# Altium footprint library PcbIC.PcbLib: 24 footprints (part 2 of 2)
Each footprint in its own frame and in the unit in brackets; x right, y up, seen from the top. Pads: shape width x height; smd on the part's side, far side on the other; paste and mask are expansions set on the pad; w line width, h text height; cw(c..) or ccw(c..) is an arc to the next point about the centre after c.
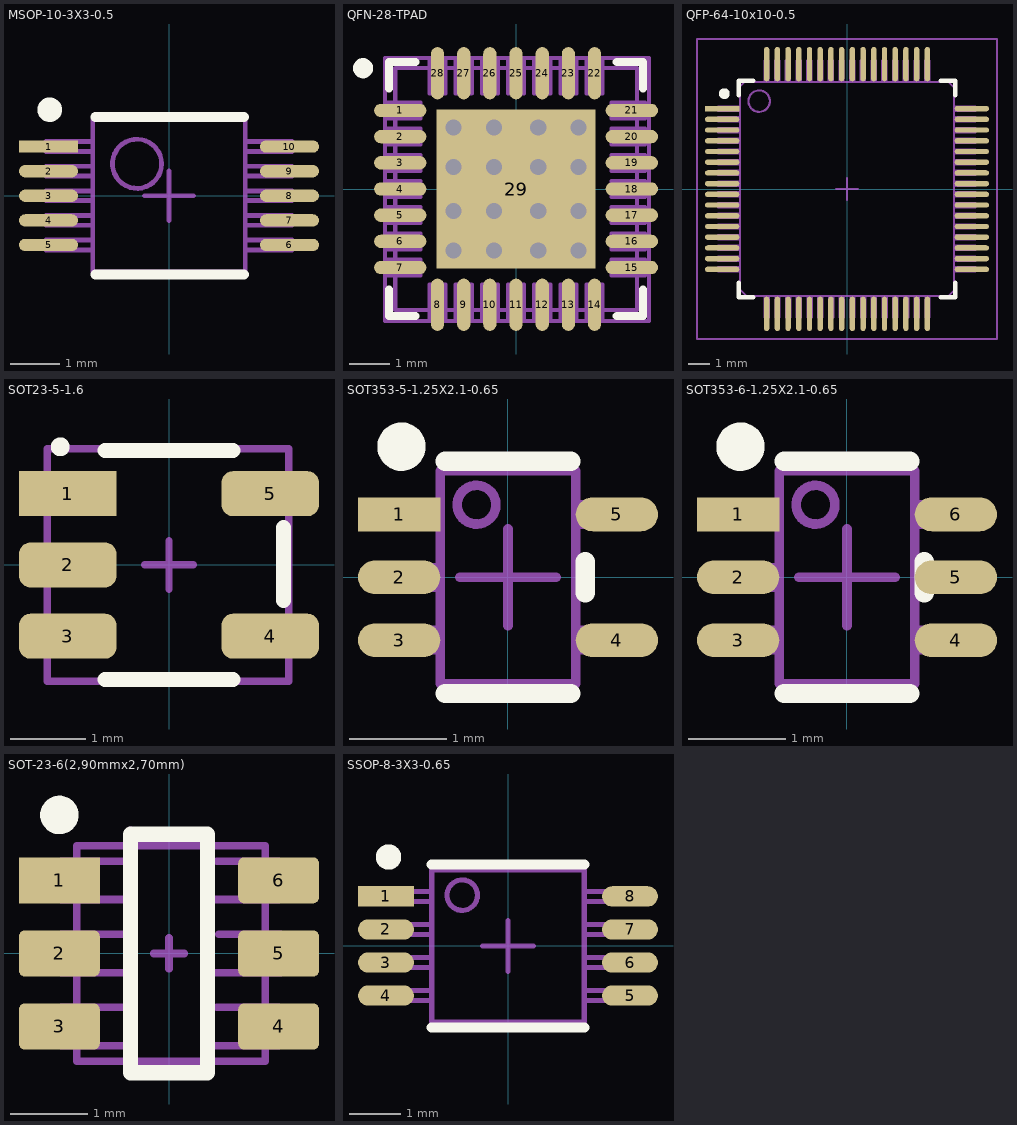
[diagram p1: the footprints below, top view; thin cyan lines are the x and y axes]

## MSOP-10-3X3-0.5 [mm] "MSOP-10, Body 3x3mm"
height 1
pads (10):
  rect 1.2x0.25 smd: 1(-2.45,1)
  oval 1.2x0.25 smd: 2(-2.45,0.5) 3(-2.45,0) 4(-2.45,-0.5) 5(-2.45,-1) 6(2.45,-1) 7(2.45,-0.5) 8(2.45,0) 9(2.45,0.5) 10(2.45,1)
Top Overlay:
  circle w0.25: c-2.425,1.75 r0.125
  lines w0.2: -1.5,-1.6 1.525,-1.6 ; -1.5,1.6 1.525,1.6
TopAssy:
  circle w0.1: c-0.65,0.65 r0.5
  lines w0.1: -1.55,-1.1 -2.5,-1.1 -2.5,-0.9 -1.55,-0.9 ; -1.55,-0.6 -2.5,-0.6 -2.5,-0.4 -1.55,-0.4 ; -1.55,-0.1 -2.5,-0.1 -2.5,0.1 -1.55,0.1 ; -1.55,0.4 -2.5,0.4 -2.5,0.6 -1.55,0.6 ; -1.55,0.9 -2.5,0.9 -2.5,1.1 -1.55,1.1 ; 1.55,-1.1 2.5,-1.1 2.5,-0.9 1.55,-0.9 ; 1.55,-0.6 2.5,-0.6 2.5,-0.4 1.55,-0.4 ; 1.55,-0.1 2.5,-0.1 2.5,0.1 1.55,0.1 ; 1.55,0.4 2.5,0.4 2.5,0.6 1.55,0.6 ; 1.55,0.9 2.5,0.9 2.5,1.1 1.55,1.1 ; -1.55,-1.55 -1.55,1.55 1.55,1.55 1.55,-1.55 -1.55,-1.55
Inside:
  lines w0.1: -0.5,0 0.5,0 ; 0,-0.5 0,0.5
3D body "SW3dPS-TSSOP-10.STEP": height 1.1, standoff 0, extent -2.5,-1.5 2.5,1.5

## QFN-28-TPAD [mm] "QFN, 28-Leads, Body 6,00x6,00mm, Pitch 0,65mm, Thermal Pad 3,95x3,95mm, IPC Medium Density"
height 1
pads (29):
  oval 1.3x0.33 smd: 1(-2.875,1.95) 2(-2.875,1.3) 3(-2.875,0.65) 4(-2.875,0) 5(-2.875,-0.65) 6(-2.875,-1.3) 7(-2.875,-1.95) 15(2.875,-1.95) 16(2.875,-1.3) 17(2.875,-0.65) 18(2.875,0) 19(2.875,0.65) 20(2.875,1.3) 21(2.875,1.95)
  oval 0.33x1.3 smd: 8(-1.95,-2.875) 9(-1.3,-2.875) 10(-0.65,-2.875) 11(0,-2.875) 12(0.65,-2.875) 13(1.3,-2.875) 14(1.95,-2.875) 22(1.95,2.875) 23(1.3,2.875) 24(0.65,2.875) 25(0,2.875) 26(-0.65,2.875) 27(-1.3,2.875) 28(-1.95,2.875)
  rect 3.95x3.95 smd: 29(0,0)
via -1.55,-1.525 diameter 0.8 hole 0.4
via 1.55,-1.525 diameter 0.8 hole 0.4
via -1.55,-0.55 diameter 0.8 hole 0.4
via 1.55,-0.55 diameter 0.8 hole 0.4
via 1.55,0.55 diameter 0.8 hole 0.4
via -1.55,1.525 diameter 0.8 hole 0.4
via -0.55,1.525 diameter 0.8 hole 0.4
via 0.55,1.525 diameter 0.8 hole 0.4
via 1.55,1.525 diameter 0.8 hole 0.4
via -1.55,0.55 diameter 0.8 hole 0.4
via -0.55,0.55 diameter 0.8 hole 0.4
via 0.55,0.55 diameter 0.8 hole 0.4
via -0.55,-0.55 diameter 0.8 hole 0.4
via 0.55,-0.55 diameter 0.8 hole 0.4
via -0.55,-1.525 diameter 0.8 hole 0.4
via 0.55,-1.525 diameter 0.8 hole 0.4
Top Overlay:
  circle w0.25: c-3.8,3 r0.125
  lines w0.2: -3.15,-2.5 -3.15,-3.15 -2.5,-3.15 ; -3.15,2.5 -3.15,3.15 -2.5,3.15 ; 2.5,-3.15 3.15,-3.15 3.15,-2.5 ; 2.5,3.15 3.15,3.15 3.15,2.5
TopAssy:
  lines w0.1: -3.2,-2.15 -3.2,-1.75 -2.375,-1.75 -2.375,-2.15 -3.2,-2.15 ; -3.2,-1.5 -2.375,-1.5 -2.375,-1.1 -3.2,-1.1 -3.2,-1.5 ; -3.2,-0.85 -3.2,-0.45 -2.375,-0.45 -2.375,-0.85 -3.2,-0.85 ; -3.2,-0.2 -2.375,-0.2 -2.375,0.2 -3.2,0.2 -3.2,-0.2 ; -3.2,0.45 -3.2,0.85 -2.375,0.85 -2.375,0.45 -3.2,0.45 ; -3.2,1.1 -3.2,1.5 -2.375,1.5 -2.375,1.1 -3.2,1.1 ; -3.2,1.75 -2.375,1.75 -2.375,2.15 -3.2,2.15 -3.2,1.75 ; -3,-3 -3,2.075 -3,3 3,3 3,-3 -3,-3 ; -2.15,-3.2 -1.75,-3.2 -1.75,-2.375 -2.15,-2.375 -2.15,-3.2 ; -2.15,2.375 -1.75,2.375 -1.75,3.2 -2.15,3.2 -2.15,2.375 ; -1.5,-3.2 -1.5,-2.375 -1.1,-2.375 -1.1,-3.2 -1.5,-3.2 ; -1.5,2.375 -1.5,3.2 -1.1,3.2 -1.1,2.375 -1.5,2.375 ; -0.85,-3.2 -0.45,-3.2 -0.45,-2.375 -0.85,-2.375 -0.85,-3.2 ; -0.85,2.375 -0.85,3.2 -0.45,3.2 -0.45,2.375 -0.85,2.375 ; -0.2,-3.2 -0.2,-2.375 0.2,-2.375 0.2,-3.2 -0.2,-3.2 ; -0.2,2.375 0.2,2.375 0.2,3.2 -0.2,3.2 -0.2,2.375 ; 0.45,-3.2 0.85,-3.2 0.85,-2.375 0.45,-2.375 0.45,-3.2 ; 0.45,2.375 0.45,3.2 0.85,3.2 0.85,2.375 0.45,2.375 ; 1.1,-3.2 1.1,-2.375 1.5,-2.375 1.5,-3.2 1.1,-3.2 ; 1.1,2.375 1.5,2.375 1.5,3.2 1.1,3.2 1.1,2.375 ; 1.75,-3.2 2.15,-3.2 2.15,-2.375 1.75,-2.375 1.75,-3.2 ; 1.75,2.375 1.75,3.2 2.15,3.2 2.15,2.375 1.75,2.375 ; 2.375,-2.15 2.375,-1.75 3.2,-1.75 3.2,-2.15 2.375,-2.15 ; 2.375,-1.5 3.2,-1.5 3.2,-1.1 2.375,-1.1 2.375,-1.5 ; 2.375,-0.85 2.375,-0.45 3.2,-0.45 3.2,-0.85 2.375,-0.85 ; 2.375,-0.2 3.2,-0.2 3.2,0.2 2.375,0.2 2.375,-0.2 ; 2.375,0.45 2.375,0.85 3.2,0.85 3.2,0.45 2.375,0.45 ; 2.375,1.1 2.375,1.5 3.2,1.5 3.2,1.1 2.375,1.1 ; 2.375,1.75 3.2,1.75 3.2,2.15 2.375,2.15 2.375,1.75
Inside:
  lines w0.1: -0.55,0 0,0 ; 0,-0.55 0,0 ; 0,0.55 0,0 ; 0.55,0 0,0 ; -3.25,-3.275 -3.25,3.25 3.3,3.25 3.3,-2.25 3.3,-3.275 -3.25,-3.275
3D body "User Library-QFN 28-Pin 0_65mm Pitch.step": height 1, standoff 0, extent -3.01,-3.01 3.01,3.01

## QFP-64-10x10-0.5 [mm] "LQFP, 64-Leads, Body 10x10mm, Pitch 0.5mm"
height 1.6
pads (64):
  rect 1.6x0.25 smd: 1(-5.825,3.75)
  oval 1.6x0.25 smd: 2(-5.825,3.25) 3(-5.825,2.75) 4(-5.825,2.25) 5(-5.825,1.75) 6(-5.825,1.25) 7(-5.825,0.75) 8(-5.825,0.25) 9(-5.825,-0.25) 10(-5.825,-0.75) 11(-5.825,-1.25) 12(-5.825,-1.75) 13(-5.825,-2.25) 14(-5.825,-2.75) 15(-5.825,-3.25) 16(-5.825,-3.75) 33(5.825,-3.75) 34(5.825,-3.25) 35(5.825,-2.75) 36(5.825,-2.25) 37(5.825,-1.75) 38(5.825,-1.25) 39(5.825,-0.75) 40(5.825,-0.25) 41(5.825,0.25) 42(5.825,0.75) 43(5.825,1.25) 44(5.825,1.75) 45(5.825,2.25) 46(5.825,2.75) 47(5.825,3.25) 48(5.825,3.75)
  oval 0.25x1.6 smd: 17(-3.75,-5.825) 18(-3.25,-5.825) 19(-2.75,-5.825) 20(-2.25,-5.825) 21(-1.75,-5.825) 22(-1.25,-5.825) 23(-0.75,-5.825) 24(-0.25,-5.825) 25(0.25,-5.825) 26(0.75,-5.825) 27(1.25,-5.825) 28(1.75,-5.825) 29(2.25,-5.825) 30(2.75,-5.825) 31(3.25,-5.825) 32(3.75,-5.825) 49(3.75,5.825) 50(3.25,5.825) 51(2.75,5.825) 52(2.25,5.825) 53(1.75,5.825) 54(1.25,5.825) 55(0.75,5.825) 56(0.25,5.825) 57(-0.25,5.825) 58(-0.75,5.825) 59(-1.25,5.825) 60(-1.75,5.825) 61(-2.25,5.825) 62(-2.75,5.825) 63(-3.25,5.825) 64(-3.75,5.825)
Top Overlay:
  circle w0.25: c-5.725,4.45 r0.125
  lines w0.2: -5.05,-4.375 -5.05,-5.05 -4.375,-5.05 ; -5.05,4.375 -5.05,5.05 -4.375,5.05 ; 4.375,-5.05 5.05,-5.05 5.05,-4.375 ; 4.375,5.05 5.05,5.05 5.05,4.375
TopAssy:
  drawing of 201 lines, arcs and shapes, not listed
Inside:
  lines w0.1: -0.5,0 0.5,0 ; 0,-0.5 0,0.5 ; -7,-7 -7,7 7,7 7,-7 -7,-7
3D body "PM0064A.stp": height 1.5, standoff 0, extent -6.011,-6.011 6.011,6.011

## SOT23-5-1.6 [mm]
pads (5):
  rect 1.3x0.6 smd: 1(-1.35,0.95)
  rrect50% 1.3x0.6 smd: 2(-1.35,0) 3(-1.35,-0.95) 4(1.35,-0.95) 5(1.35,0.95)
Top Overlay:
  circle w0.15: c-1.45,1.575 r0.05
  lines w0.2: -0.85,-1.525 0.85,-1.525 ; -0.85,1.525 0.85,1.525 ; 1.525,-0.475 1.525,0.5
TopAssy:
  lines w0.1: -1.625,-1.55 1.6,-1.55 1.6,1.55 -1.625,1.55 -1.625,-1.55
Inside:
  lines w0.1: -0.325,0 0.325,0 ; 0,-0.325 0,0.325
3D body "User Library-SOT23-5-3.STEP": height 1.45, standoff 0.01, extent -1.6,-1.55 1.6,1.55

## SOT353-5-1.25X2.1-0.65 [mm] "SC-70-5, 0.65 PITCH"
height 2.3
pads (5):
  rect 0.85x0.35 smd: 1(-1.125,0.65)
  oval 0.85x0.35 smd: 2(-1.125,0) 3(-1.125,-0.65) 4(1.125,-0.65) 5(1.125,0.65)
Top Overlay:
  circle w0.25: c-1.1,1.35 r0.125
  lines w0.2: -0.65,-1.2 0.65,-1.2 ; -0.65,1.2 0.65,1.2 ; 0.8,-0.163 0.8,0.162
TopAssy:
  circle w0.1: c-0.325,0.75 r0.2
  lines w0.1: -0.7,-0.75 -1.225,-0.75 -1.225,-0.55 -0.7,-0.55 ; -0.7,-0.1 -1.225,-0.1 -1.225,0.1 -0.7,0.1 ; -0.7,0.55 -1.225,0.55 -1.225,0.75 -0.7,0.75 ; 0.7,-0.75 1.225,-0.75 1.225,-0.55 0.7,-0.55 ; 0.7,0.55 1.225,0.55 1.225,0.75 0.7,0.75 ; -0.7,-1.1 0.7,-1.1 0.7,1.1 -0.7,1.1 -0.7,-1.1
Inside:
  lines w0.1: -0.5,0 0.5,0 ; 0,-0.5 0,0.5
3D body "SOT353.STEP": height 1.1, standoff 0, extent -1.2,-1.1 1.2,1.1

## SOT353-6-1.25X2.1-0.65 [mm] "SC-70-6, 0.65 PITCH"
height 2.3
pads (6):
  rect 0.85x0.35 smd: 1(-1.125,0.65)
  oval 0.85x0.35 smd: 2(-1.125,0) 3(-1.125,-0.65) 4(1.125,-0.65) 5(1.125,0) 6(1.125,0.65)
Top Overlay:
  circle w0.25: c-1.1,1.35 r0.125
  lines w0.2: -0.65,-1.2 0.65,-1.2 ; -0.65,1.2 0.65,1.2 ; 0.8,-0.163 0.8,0.162
TopAssy:
  circle w0.1: c-0.325,0.75 r0.2
  lines w0.1: -0.7,-0.75 -1.225,-0.75 -1.225,-0.55 -0.7,-0.55 ; -0.7,-0.1 -1.225,-0.1 -1.225,0.1 -0.7,0.1 ; -0.7,0.55 -1.225,0.55 -1.225,0.75 -0.7,0.75 ; 0.7,-0.75 1.225,-0.75 1.225,-0.55 0.7,-0.55 ; 0.7,-0.1 1.225,-0.1 1.225,0.1 0.7,0.1 ; 0.7,0.55 1.225,0.55 1.225,0.75 0.7,0.75 ; -0.7,-1.1 -0.7,1.1 0.7,1.1 0.7,-1.1 -0.7,-1.1
Inside:
  lines w0.1: -0.5,0 0.5,0 ; 0,-0.5 0,0.5
3D body "User Library-SC70-6.step": height 0.92, standoff -0.03, extent -1.075,-0.975 1.025,1.025

## SOT-23-6(2,90mmx2,70mm) [mm] "SOT23, 6-Leads, Body 2,90x2,70mm, Pitch 0,95mm, IPC Medium Density"
height 1.1
pads (6):
  rect 1.05x0.6 smd: 1(-1.425,0.95)
  rrect25% 1.05x0.6 smd: 2(-1.425,0) 3(-1.425,-0.95) 4(1.425,-0.95) 5(1.425,0) 6(1.425,0.95)
Top Overlay:
  circle w0.25: c-1.425,1.8 r0.125
  lines w0.2: -0.5,-1.55 0.5,-1.55 0.5,1.55 -0.5,1.55 -0.5,-1.55
TopAssy:
  lines w0.1: -0.6,-0.7 -1.4,-0.7 -1.4,-1.2 -0.5,-1.2 ; -0.6,0.25 -1.4,0.25 -1.4,-0.25 -0.5,-0.25 ; -0.6,1.2 -1.4,1.2 -1.4,0.7 -0.5,0.7 ; 0.525,-1.2 1.425,-1.2 1.425,-0.7 0.625,-0.7 ; 0.525,0.7 1.425,0.7 1.425,1.2 0.625,1.2 ; 0.55,-0.25 1.45,-0.25 1.45,0.25 0.65,0.25 ; -0.5,-1.4 -0.5,1.6 -0.4,1.5 0.5,1.5 0.5,-1.5 -0.4,-1.5 -0.5,-1.4
Inside:
  lines w0.1: -0.2,0 0.2,0 ; 0,-0.2 0,0.2 ; -1.2,-1.4 -1.2,1.4 1.25,1.4 1.25,-1.4 -1.2,-1.4
3D body "User Library-SOT23-6-1.step": height 1.09, standoff 0, extent -1.2,-1.397 1.226,1.397

## SSOP-8-3X3-0.65 [mm] "MSOP, 8-Leads, Body 3,00x3,00mm, Pitch 0,65mm, IPC Medium Density"
height 1.2
pads (8):
  rect 1.1x0.4 smd: 1(-2.4,0.975)
  oval 1.1x0.4 smd: 2(-2.4,0.325) 3(-2.4,-0.325) 4(-2.4,-0.975) 5(2.4,-0.975) 6(2.4,-0.325) 7(2.4,0.325) 8(2.4,0.975)
Top Overlay:
  circle w0.25: c-2.35,1.75 r0.125
  lines w0.2: -1.5,-1.6 1.5,-1.6 ; -1.5,1.6 1.5,1.6
TopAssy:
  circle w0.1: c-0.9,1 r0.3
  lines w0.1: -1.5,-1.075 -2.45,-1.075 -2.45,-0.875 -1.5,-0.875 ; -1.5,-0.425 -2.45,-0.425 -2.45,-0.225 -1.5,-0.225 ; -1.5,0.225 -2.45,0.225 -2.45,0.425 -1.5,0.425 ; -1.5,0.875 -2.45,0.875 -2.45,1.075 -1.5,1.075 ; 1.5,-1.075 2.45,-1.075 2.45,-0.875 1.5,-0.875 ; 1.5,-0.425 2.45,-0.425 2.45,-0.225 1.5,-0.225 ; 1.5,0.225 2.45,0.225 2.45,0.425 1.5,0.425 ; 1.5,0.875 2.45,0.875 2.45,1.075 1.5,1.075 ; -1.5,-1.5 1.5,-1.5 1.5,1.5 -1.5,1.5 -1.5,-1.5
Inside:
  lines w0.1: -0.5,0 0.5,0 ; 0,-0.5 0,0.5
3D body "User Library-MSOP-8-2.STEP": height 1.05, standoff -0.02, extent -2.51,-1.5 2.511,1.5